# EAGLE library part SAMXXXG (library IC)
SAMXXXG This is the generic footprint for a SAMC/D 20/21 'G' MCU, 48 pins
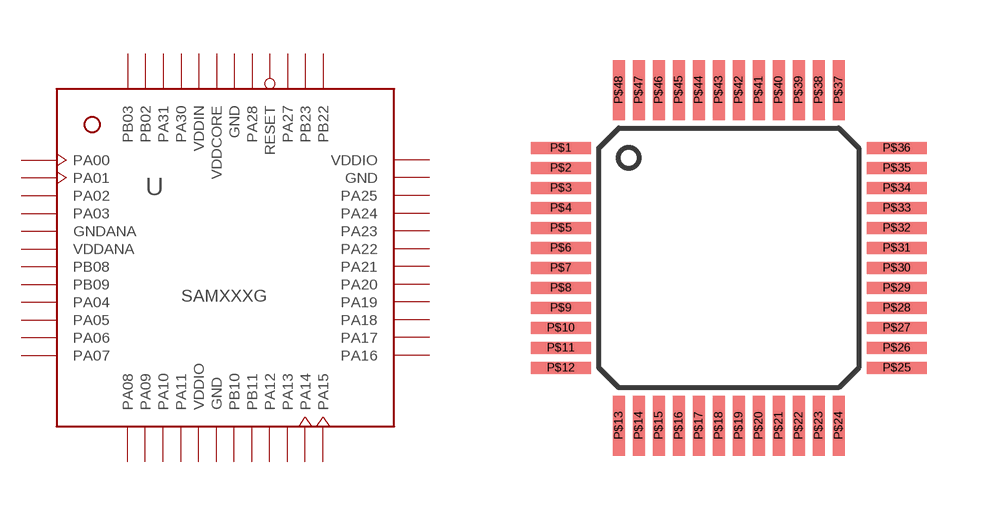
[diagram p0: symbol with the pads of TQFP48; footprint TQFP48]

Designator prefix U

## SAMXXXG  [TQFP48]
P$1  PA00
P$2  PA01
P$3  PA02
P$4  PA03
P$5  GNDANA
P$6  VDDANA
P$7  PB08
P$8  PB09
P$9  PA04
P$10  PA05
P$11  PA06
P$12  PA07
P$13  PA08
P$14  PA09
P$15  PA10
P$16  PA11
P$17  VDDIO
P$18  GND
P$19  PB10
P$20  PB11
P$21  PA12
P$22  PA13
P$23  PA14
P$24  PA15
P$25  PA16
P$26  PA17
P$27  PA18
P$28  PA19
P$29  PA20
P$30  PA21
P$31  PA22
P$32  PA23
P$33  PA24
P$34  PA25
P$35  GND
P$36  VDDIO
P$37  PB22
P$38  PB23
P$39  PA27
P$40  RESET
P$41  PA28
P$42  GND
P$43  VDDCORE
P$44  VDDIN
P$45  PA30
P$46  PA31
P$47  PB02
P$48  PB03

## Footprint TQFP48 (pad centres in mm)
smd 1.5 x 0.3: P$1 -4.2,2.75; P$2 -4.2,2.25; P$3 -4.2,1.75; P$4 -4.2,1.25; P$5 -4.2,0.75; P$6 -4.2,0.25; P$7 -4.2,-0.25; P$8 -4.2,-0.75; P$9 -4.2,-1.25; P$10 -4.2,-1.75; P$11 -4.2,-2.25; P$12 -4.2,-2.75; P$25 4.2,-2.75; P$26 4.2,-2.25; P$27 4.2,-1.75; P$28 4.2,-1.25; P$29 4.2,-0.75; P$30 4.2,-0.25; P$31 4.2,0.25; P$32 4.2,0.75; P$33 4.2,1.25; P$34 4.2,1.75; P$35 4.2,2.25; P$36 4.2,2.75
smd 0.3 x 1.5: P$13 -2.75,-4.2; P$14 -2.25,-4.2; P$15 -1.75,-4.2; P$16 -1.25,-4.2; P$17 -0.75,-4.2; P$18 -0.25,-4.2; P$19 0.25,-4.2; P$20 0.75,-4.2; P$21 1.25,-4.2; P$22 1.75,-4.2; P$23 2.25,-4.2; P$24 2.75,-4.2; P$37 2.75,4.2; P$38 2.25,4.2; P$39 1.75,4.2; P$40 1.25,4.2; P$41 0.75,4.2; P$42 0.25,4.2; P$43 -0.25,4.2; P$44 -0.75,4.2; P$45 -1.25,4.2; P$46 -1.75,4.2; P$47 -2.25,4.2; P$48 -2.75,4.2